# EAGLE library part AMP-C702-2064 (library Mechanical)
8 PIN Smart Card Connector
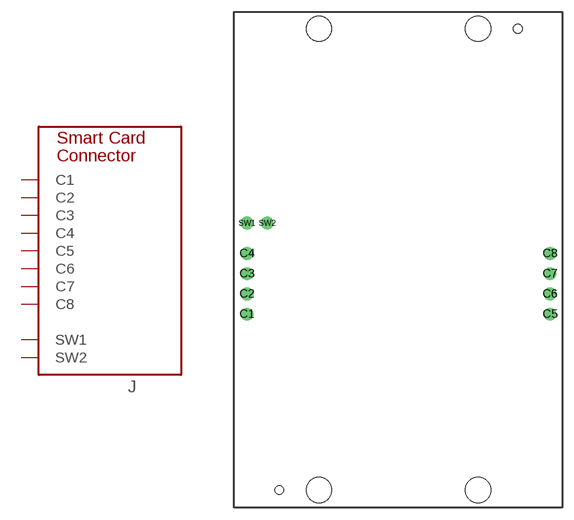
[diagram p32: symbol with the pads of AMP-C702-2064; footprint AMP-C702-2064]

Designator prefix J

## AMP-C702-2064  [AMP-C702-2064]
C1  C1
C2  C2
C3  C3
C4  C4
C5  C5
C6  C6
C7  C7
C8  C8
SW1  SW1
SW2  SW2

## Footprint AMP-C702-2064 (pad centres in mm)
drill 1.067: C1 -19.05,-7.619; C2 -19.05,-5.079; C3 -19.05,-2.539; C4 -19.05,0.001; C5 19.05,-7.619; C6 19.05,-5.079; C7 19.05,-2.539; C8 19.05,0.001; SW1 -19.05,3.811; SW2 -16.51,3.811
hole 1.092 at -15,-29.739
hole 1.092 at 15,28.261
hole 3.175 at 10,28.261
hole 3.175 at -10,28.261
hole 3.175 at 10,-29.739
hole 3.175 at -10,-29.739